# EAGLE library part LM2594HVM-5.0 (library LM2594HVM-5.0)
SIMPLE SWITCHER
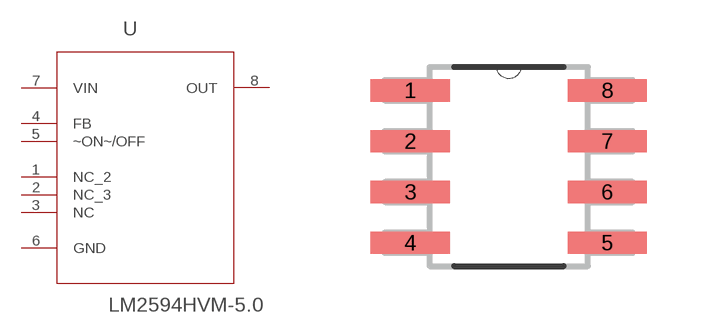
[diagram p0: symbol with the pads of SOIC127P620X175-8N; footprint SOIC127P620X175-8N]

Designator prefix U

## LM2594HVM-5.0 (Availability: Unavailable; Description: SIMPLE SWITCHER Power Converter 150 kHz 0.5A Step-Down Voltage Regulator 8-SOIC -40 to 125; MF: Texas Instruments; MP: LM2594HVM-5.0/NOPB; Package: SOIC-8 Texas Instruments; Price: None)  [SOIC127P620X175-8N]
1  NC_2  nc
2  NC_3  nc
3  NC  nc
4  FB  in
5  ~ON~/OFF  in
6  GND  pas
7  VIN  pwr
8  OUT  out

## Footprint SOIC127P620X175-8N (pad centres in mm)
smd 1.981 x 0.559: 1 -2.464,1.905; 2 -2.464,0.635; 3 -2.464,-0.635; 4 -2.464,-1.905; 5 2.464,-1.905; 6 2.464,-0.635; 7 2.464,0.635; 8 2.464,1.905